# EAGLE library part SLW20R-1C7LF (library Mechanical)
1.0 mm spacing Flat Flex cable connector. Horizontal locking mount. Cable inserts with electrode side down.
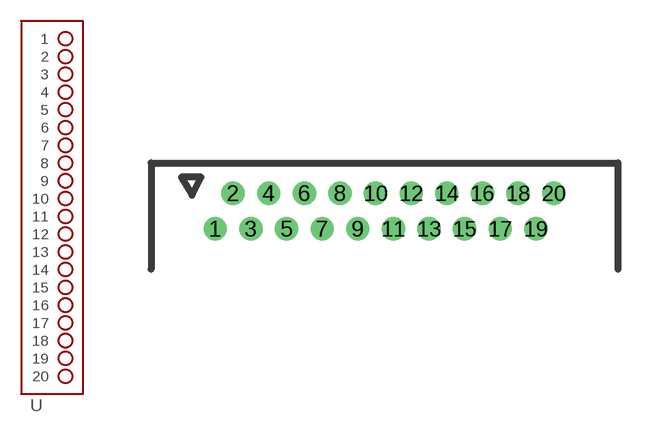
[diagram p75: symbol with the pads of SLW20R-1C7LF; footprint SLW20R-1C7LF]

Designator prefix -

## SLW20R-1C7LF  [SLW20R-1C7LF]
1  1  pas
2  2  pas
3  3  pas
4  4  pas
5  5  pas
6  6  pas
7  7  pas
8  8  pas
9  9  pas
10  10  pas
11  11  pas
12  12  pas
13  13  pas
14  14  pas
15  15  pas
16  16  pas
17  17  pas
18  18  pas
19  19  pas
20  20  pas

## Footprint SLW20R-1C7LF (pad centres in mm)
20-pin Flat Flex Cable Connector 1mm spacing thru-hole cabling connector. Cable inserts horizontally to the PCB with the electrode side facing down. Connector features a locking lever arm.
drill 0.8: 1 -9.5,4.8; 2 -8.5,6.8; 3 -7.5,4.8; 4 -6.5,6.8; 5 -5.5,4.8; 6 -4.5,6.8; 7 -3.5,4.8; 8 -2.5,6.8; 9 -1.5,4.8; 10 -0.5,6.8; 11 0.5,4.8; 12 1.5,6.8; 13 2.5,4.8; 14 3.5,6.8; 15 4.5,4.8; 16 5.5,6.8; 17 6.5,4.8; 18 7.5,6.8; 19 8.5,4.8; 20 9.5,6.8